# Altium schematic symbol library STCAutoDownload.SchLib: 13 symbols
Pins are listed as number, name and electrical type; pins without a type are passive.

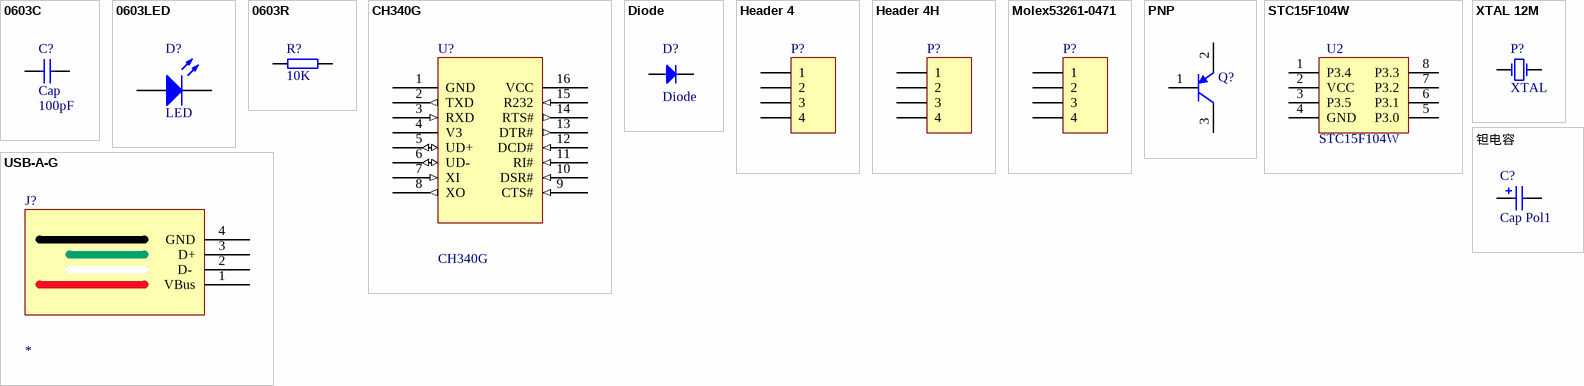
[diagram p0: symbols 0603C to 钽电容]

## 0603C
designator C?, comment Cap  value 100pF
Capacitor; Published: 8-Jun-2000; LatestRevisionDate: 17-Jul-2002; LatestRevisionNote: Re-released for DXP Platform.; PackageReference: RAD-0.3; Publisher: Altium Limited; PackageDescription: Radial Cap, Thru-Hole; 2 Leads; 0.3 in Pin Spacing
footprint 0603C (VISHAY VJ贴片电容)
pins: 1, 2

## 0603LED
designator D?, comment LED
Typical INFRARED GaAs LED; Published: 8-Jun-2000; LatestRevisionDate: 08-Jul-2005; LatestRevisionNote: Mech Layer 1 removed.; PackageReference: LED-0; Publisher: Altium Limited; PackageDescription: LED; 2 Leads
footprint 0603LED (0603 贴片LED)
pins: 1 A, 2 K

## 0603R
designator R?, comment 10K
电阻
footprint 0603R (电阻)
pins: 1, 2

## CH340G
designator U?
USB to TTL Serial / UART
footprint CH340G (USB to TTL Serial / UART)
pins: 1 GND (power), 2 TXD (out), 3 RXD (in), 4 V3 (power), 5 UD+ (io), 6 UD- (io), 7 XI (in), 8 XO (out), 9 CTS# (in), 10 DSR# (in), 11 RI# (in), 12 DCD# (in), 13 DTR# (out), 14 RTS# (out), 15 R232 (in), 16 VCC (power)

## Diode
designator D?
二极管; Published: 8-Jun-2000; LatestRevisionDate: 17-Jul-2002; LatestRevisionNote: Re-released for DXP Platform.; PackageDocument: Sep-1996; PackageReference: SMC; Publisher: Altium Limited; Code_JEDEC: DO-214-AB
footprint Diode (二极管封装（针式）)
pins: 1 A, 2 K

## Header 4
designator P?
Header, 4-Pin; LatestRevisionDate: 17-Jul-2002; LatestRevisionNote: Re-released for DXP Platform.; Publisher: Altium Limited
footprint Header 4 (Connector; Header; 4 Position)
pins: 1, 2, 3, 4

## Header 4H
designator P?
Header, 4-Pin; LatestRevisionDate: 17-Jul-2002; LatestRevisionNote: Re-released for DXP Platform.; Publisher: Altium Limited
footprint Header 4 (Connector; Header; 4 Position)
pins: 1, 2, 3, 4

## Molex53261-0471
designator P?
Header, 4-Pin, Molex53261-0471; LatestRevisionDate: 17-Jul-2002; LatestRevisionNote: Re-released for DXP Platform.; Publisher: Altium Limited
footprint Molex53261-0471 (Footprint not found)
pins: 1, 2, 3, 4

## PNP
designator Q?
PNP Bipolar Transistor; Published: 8-Jun-2000; LatestRevisionDate: 17-Jul-2002; LatestRevisionNote: Re-released for DXP Platform.; PackageReference: SOT-23B; Publisher: Altium Limited; Code_JEDEC: SOT-23
footprint PNP (TO-92(TO-92-3))
pins: 1 B, 2 E, 3 C

## STC15F104W
designator U2
footprint STC15F104W (SO8)
pins: 1 P3.4, 2 VCC, 3 P3.5, 4 GND, 5 P3.0, 6 P3.1, 7 P3.2, 8 P3.3

## USB-A-G
designator J?
USB-A 公头
footprint USB_A_G
pins: 1 VBus, 2 D- , 3 D+, 4 GND

## XTAL 12M
designator P?, comment XTAL
12MHZ振荡器[2PIN]
footprint XTAL 12M
pins: 1 OSC1, 2 OSC2

## 钽电容
designator C?, comment Cap Pol1
钽电容; Published: 8-Jun-2000; LatestRevisionDate: 17-Jul-2002; LatestRevisionNote: Re-released for DXP Platform.; PackageReference: RB7.6-15; Publisher: Altium Limited
footprint 钽电容 (A 型钽电容封装)
pins: 1, 2
1 alternate drawing of the same symbol